# EAGLE library part TEL-5-DUAL (library traco)
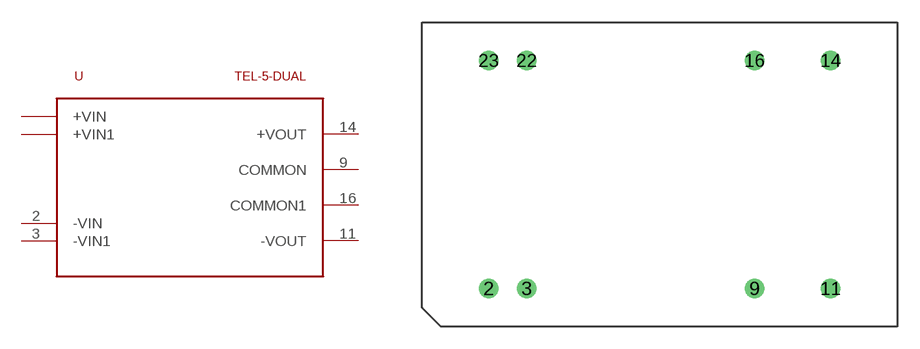
[diagram p1: symbol with the pads of TEL-5-DUAL; footprint TEL-5-DUAL]

Designator prefix -

## TEL-5-DUAL  [TEL-5-DUAL]
2  -VIN
3  -VIN1
9  COMMON
11  -VOUT
14  +VOUT
16  COMMON1
22  +VIN
23  +VIN1

## Footprint TEL-5-DUAL (pad centres in mm)
drill 0.8: 2 5.08,2.54; 3 7.62,2.54; 9 22.86,2.54; 11 27.94,2.54; 14 27.94,17.78; 16 22.86,17.78; 22 7.62,17.78; 23 5.08,17.78